# EAGLE library part XIAO (library UNIT_Biblioteca_Modulos)
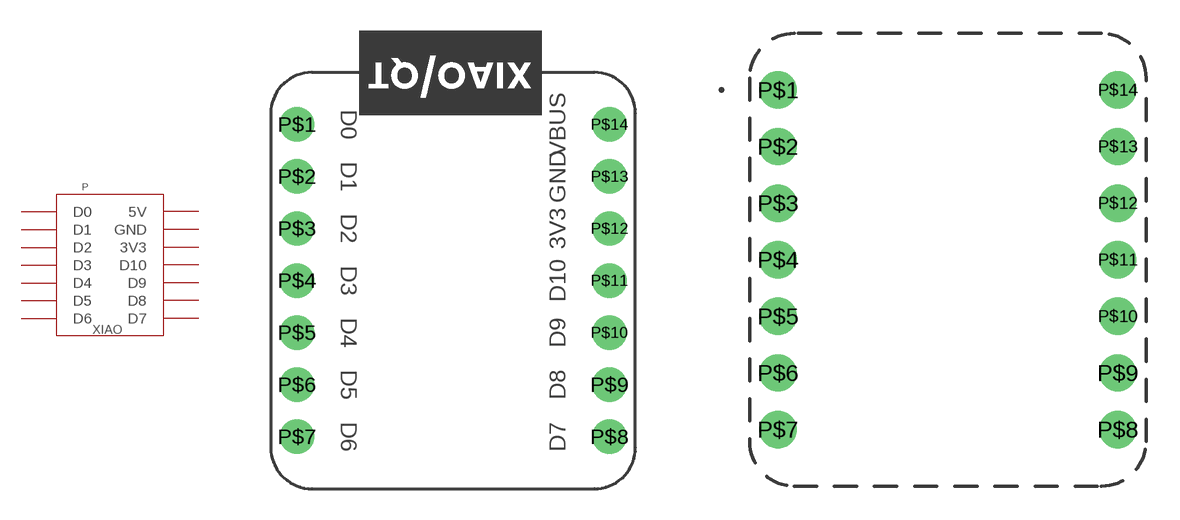
[diagram p6: symbol with the pads of XIAO; footprints XIAO, XIAO_DASHED_SILKSCREEN]

Designator prefix P

## XIAO (CLASS: Modules; DESCRIPTION: Generic Xiao Development Board; MANUFACTURER_NAME: Seeed Studios)  [XIAO]
P$1  D0
P$2  D1
P$3  D2
P$4  D3
P$5  D4
P$6  D5
P$7  D6
P$8  D7
P$9  D8
P$10  D9
P$11  D10
P$12  3V3
P$13  GND
P$14  5V

## XIAODASHED_SILKSCREEN  [XIAO_DASHED_SILKSCREEN]
Pads as for XIAO

## XIAOSMD (CLASS: Modules)  [XIAO_SMD]
3V3  3V3
D0  D0
D1  D1
D2  D2
D3  D3
D4  D4
D5  D5
D6  D6
D7  D7
D8  D8
D9  D9
D10  D10
GND  GND
VBUS  5V

## Footprint XIAO (pad centres in mm)
drill 1 pad 1.676: P$1 0,15.24; P$2 0,12.7; P$3 0,10.16; P$4 0,7.62; P$5 0,5.08; P$6 0,2.54; P$7 0,0; P$8 15.24,0; P$9 15.24,2.54; P$10 15.24,5.08; P$11 15.24,7.62; P$12 15.24,10.16; P$13 15.24,12.7; P$14 15.24,15.24

## Footprint XIAO_DASHED_SILKSCREEN (pad centres in mm)
drill 1 pad 1.676: P$1 0,15.24; P$2 0,12.7; P$3 0,10.16; P$4 0,7.62; P$5 0,5.08; P$6 0,2.54; P$7 0,0; P$8 15.24,0; P$9 15.24,2.54; P$10 15.24,5.08; P$11 15.24,7.62; P$12 15.24,10.16; P$13 15.24,12.7; P$14 15.24,15.24

## Footprint XIAO_SMD (pad centres in mm)
smd 1.9 x 1.02: 3V3 9.27,2.54; D0 -5.97,7.62; D1 -9.27,5.08; D2 -5.97,2.54; D3 -9.27,0; D4 -5.97,-2.54; D5 -9.27,-5.08; D6 -5.97,-7.62; D7 9.27,-7.62; D8 5.97,-5.08; D9 9.27,-2.54; D10 5.97,0; GND 5.97,5.08; VBUS 9.27,7.62